# Altium schematic symbol library 2019-09-20_18-29-08.SchLib: 2 symbols
Pins are listed as number, name and electrical type; pins without a type are passive.

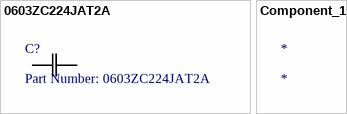
[diagram p0: symbols 0603ZC224JAT2A to Component_1]

## 0603ZC224JAT2A
designator C?, comment Part Number: 0603ZC224JAT2A
No Description Available; Vendor: AVX Corporation; Built_By: EMA_UL_Team; Type: DEV; Manufacturer_Part_Number: 0603ZC224JAT2A; Copyright: Copyright (C) 2018 Accelerated Designs. All rights reserved; RefDes: RefDes; Value: Value
footprint 0603
pins: 1, 2

## Component_1
designator *